# EAGLE library part LD39050PU33R (library voltage-regulator)
STMICROELECTRONICS - LD39050PU33R - LDO, FIXED, 3.3V, 0.5A, DFN-6 <https://componentsearchengine.com/Images/1/LD39050PU33R.jpg> Source: Datasheet <https://componentsearchengine.com/Datasheets/2/LD39050PU33R.pdf>
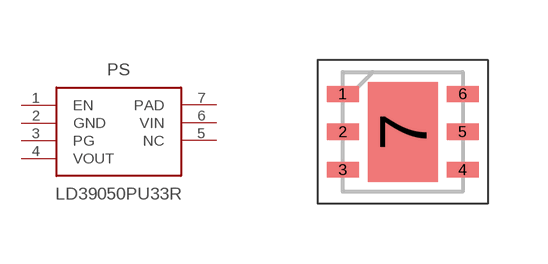
[diagram p0: symbol with the pads of SON95P300X300X100-7N; footprint SON95P300X300X100-7N]

Designator prefix PS

## LD39050PU33R (DESCRIPTION: STMICROELECTRONICS - LD39050PU33R - LDO, FIXED, 3.3V, 0.5A, DFN-6; HEIGHT: 1mm; MANUFACTURER_NAME: STMicroelectronics; MANUFACTURER_PART_NUMBER: LD39050PU33R; SUPPLIER_NAME: RS)  [SON95P300X300X100-7N]
1  EN  in
2  GND  pwr
3  PG  out
4  VOUT  out
5  NC  nc
6  VIN  pwr
7  PAD  pwr

## Footprint SON95P300X300X100-7N (pad centres in mm)
DFN6(3X3)
smd 0.8 x 0.4: 1 -1.5,0.95; 2 -1.5,0; 3 -1.5,-0.95; 4 1.5,-0.95; 5 1.5,0; 6 1.5,0.95
smd 1.75 x 2.5: 7 0,0